# Altium integrated library Infineon_Power_MOSFET.IntLib: 1448 symbols (part 30 of 47)
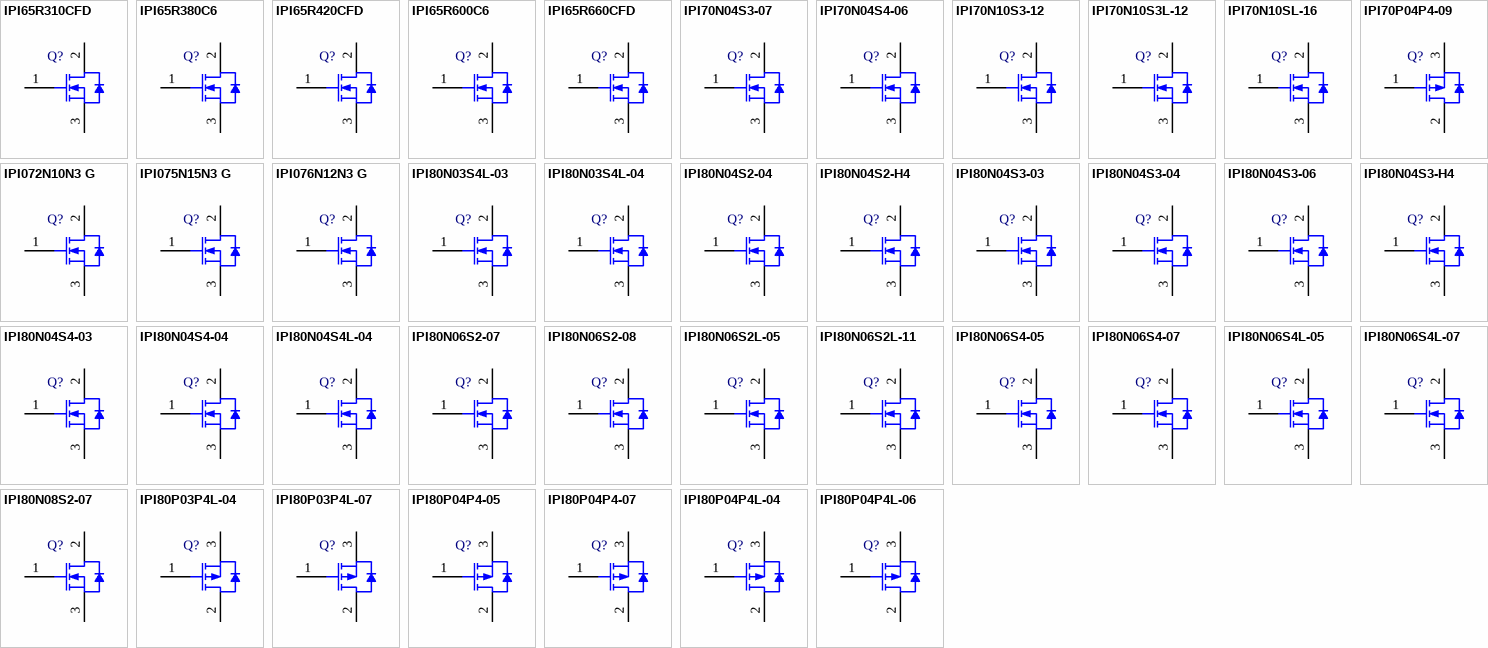
[diagram p66: symbols IPI65R310CFD to IPI80P04P4L-06]

## IPI70N10S3-12
designator Q?
OptiMOS-T Power-Transistor, 100 V VDS, 70 A ID, PG-TO262-3-1, Tube, Green; Manufacturer: Infineon; PartNumber: IPI70N10S3-12; Green: TRUE; ID (max): 70 A; IDpuls (max): 280 A; Ptot (max): 125 W; QG: 51 nC; RDS (on) (max) (@10V): 11.6 mOhm; RthJC (max): 1.2 K/W; VDS (max): 100 V; VGS(th) (max): 4 V; VGS(th) (min): 2 V; DatasheetVersion: Rev. 1.0; PackageReference: PG-TO262-3-1; PackageDescription: 3-Pin Plastic (Green) Transistor Single Outline Package, 10 x 9.25 mm Body, 2.54 mm Pitch; Supplier 1: Mouser; Supplier Part Number 1: 726-IPI70N10S312; Supplier 2: Digi-Key; Supplier Part Number 2: IPI70N10S3-12-ND; Halogen-free: TRUE; Packing: Tube; Technology: OptiMOS-T; Mounting Technology: Through Hole; ComponentLink1Description: Manufacturer URL; ComponentLink1URL: http://www.infineon.com/; ComponentLink2Description: Datasheet; ComponentLink2URL: http://www.infineon.com/dgdl/IPP_B_I70N10S3-12_neu.pdf?folderId=db3a3043156fd5730115c7d50620107c&fileId=db3a30431a5c32f2011a909803815967&location=en.Products.Automotive_ICs.Automotive_MOSFETs.Single__N-Channel_100V_MOSFETs.DATASHEET.IPP_B_I70N10S3-12_neu.pdf; ComponentLink3Description: Package Specification; ComponentLink3URL: http://www.infineon.com/cms/packages/Leaded_and_through-hole/P-PG-TO262/P-PG-TO262-3-1.html?__locale=en
footprint INF-PG-TO262-3-1 (FM, 3-Leads, Body 10x4.4mm, Pitch 2.54mm)
pins: 1 GATE, 2 DRAIN, 3 SOURCE

## IPI70N10S3L-12
designator Q?
OptiMOS-T Power-Transistor, 100 V VDS, 70 A ID, PG-TO262-3-1, Tube, Green; Manufacturer: Infineon; PartNumber: IPI70N10S3L-12; Green: TRUE; ID (max): 70 A; IDpuls (max): 280 A; Ptot (max): 125 W; QG: 60 nC; RDS (on) (max) (@10V): 12.1 mOhm; RDS (on) (max) (@4.5V): 15.8 mOhm; RthJC (max): 1.2 K/W; VDS (max): 100 V; VGS(th) (max): 2.4 V; VGS(th) (min): 1.2 V; DatasheetVersion: Rev. 1.2; PackageReference: PG-TO262-3-1; PackageDescription: 3-Pin Plastic (Green) Transistor Single Outline Package, 10 x 9.25 mm Body, 2.54 mm Pitch; Supplier 1: Mouser; Supplier Part Number 1: 726-IPI70N10S3L-12; Supplier 2: Digi-Key; Supplier Part Number 2: IPI70N10S3L-12-ND; Halogen-free: TRUE; Packing: Tube; Technology: OptiMOS-T; Mounting Technology: Through Hole; ComponentLink1Description: Manufacturer URL; ComponentLink1URL: http://www.infineon.com/; ComponentLink2Description: Datasheet; ComponentLink2URL: http://www.infineon.com/dgdl/IPP_B_I70N10S3L-12_DS_1_2.pdf?folderId=db3a3043156fd5730115c7d50620107c&fileId=db3a30431a5c32f2011a907bea255942&location=en.Products.Automotive_ICs.Automotive_MOSFETs.Single__N-Channel_100V_MOSFETs.DATASHEET.IPP_B_I70N10S3L-12_DS_1_2.pdf; ComponentLink3Description: Package Specification; ComponentLink3URL: http://www.infineon.com/cms/packages/Leaded_and_through-hole/P-PG-TO262/P-PG-TO262-3-1.html?__locale=en
footprint INF-PG-TO262-3-1 (FM, 3-Leads, Body 10x4.4mm, Pitch 2.54mm)
pins: 1 GATE, 2 DRAIN, 3 SOURCE

## IPI70N10SL-16
designator Q?
SIPMOS Power-Transistor, 100 V VDS, 70 A ID, PG-TO262-3-1, Tube, Green; Manufacturer: Infineon; PartNumber: IPI70N10SL-16; Green: TRUE; ID (max): 70 A; IDpuls (max): 280 A; Ptot (max): 250 W; QG: 160 nC; RDS (on) (max) (@10V): 16 mOhm; RDS (on) (max) (@4.5V): 25 mOhm; RthJC (max): 0.6 K/W; VDS (max): 100 V; VGS(th) (max): 2 V; VGS(th) (min): 1.2 V; PackageReference: PG-TO262-3-1; PackageDescription: 3-Pin Plastic (Green) Transistor Single Outline Package, 10 x 9.25 mm Body, 2.54 mm Pitch; Supplier 1: Mouser; Supplier Part Number 1: 726-IPI70N10SL-16; Supplier 2: Digi-Key; Supplier Part Number 2: IPI70N10SL-16-ND; Halogen-free: TRUE; Packing: Tube; Technology: SIPMOS; Mounting Technology: Through Hole; ComponentLink1Description: Manufacturer URL; ComponentLink1URL: http://www.infineon.com/; ComponentLink2Description: Datasheet; ComponentLink2URL: http://www.infineon.com/dgdl/IPP_B_I70N10SL-16.pdf?folderId=db3a304412b407950112b42a6a0a4339&fileId=db3a304412b407950112b42a72ce4342&location=en.Products.Automotive_ICs.Automotive_MOSFETs.Single__N-Channel_100V_MOSFETs.DATASHEET.IPP_B_I70N10SL-16.pdf; ComponentLink3Description: Package Specification; ComponentLink3URL: http://www.infineon.com/cms/packages/Leaded_and_through-hole/P-PG-TO262/P-PG-TO262-3-1.html?__locale=en
footprint INF-PG-TO262-3-1 (FM, 3-Leads, Body 10x4.4mm, Pitch 2.54mm)
pins: 1 GATE, 2 DRAIN, 3 SOURCE

## IPI70P04P4-09
designator Q?
OptiMOS-P2 Power-Transistor, -40 V VDS, -70 A ID, PG-TO262-3-1, Tube, Green; Manufacturer: Infineon; PartNumber: IPI70P04P4-09; Green: TRUE; ID (max): -70 A; IDpuls (max): -288 A; Ptot (max): 75 W; QG: 54 nC; RDS (on) (max) (@10V): 9.4 mOhm; RthJC (max): 2 K/W; VDS (max): -40 V; VGS(th) (max): -4 V; VGS(th) (min): -2 V; DatasheetVersion: Rev. 1.3; PackageReference: PG-TO262-3-1; PackageDescription: 3-Pin Plastic (Green) Transistor Single Outline Package, 10 x 9.25 mm Body, 2.54 mm Pitch; Supplier 1: Mouser; Supplier Part Number 1: 726-IPI70P04P4-09; Halogen-free: TRUE; Packing: Tube; Technology: OptiMOS-P2; Mounting Technology: Through Hole; ComponentLink1Description: Manufacturer URL; ComponentLink1URL: http://www.infineon.com/; ComponentLink2Description: Datasheet; ComponentLink2URL: http://www.infineon.com/dgdl/IPP_B_I70P04P4-09_DS_13.pdf?folderId=db3a304412b407950112b42b75b74520&fileId=db3a30432f69f146012f782d29312e0f&location=en.Products.Automotive_ICs.Automotive_MOSFETs.Single__P-Channel_40V_MOSFETs.DATASHEET.IPP_B_I70P04P4-09_DS_13.pdf; ComponentLink3Description: Package Specification; ComponentLink3URL: http://www.infineon.com/cms/packages/Leaded_and_through-hole/P-PG-TO262/P-PG-TO262-3-1.html?__locale=en
footprint INF-PG-TO262-3-1 (FM, 3-Leads, Body 10x4.4mm, Pitch 2.54mm)
pins: 1 GATE, 2 DRAIN, 3 SOURCE

## IPI072N10N3 G
designator Q?
N-Channel OptiMOS 3 Power-Transistor, 100 V VDS, 80 A ID, -55 to 175 degC, PG-TO262-3-1, Tube, Green; Manufacturer: Infineon; PartNumber: IPI072N10N3 G; Green: TRUE; ID (max): 80 A; IDpuls (max): 320 A; Polarity: N; Ptot (max): 150 W; QG: 51 nC; RDS (on) (max): 7.2 mOhm; Rth: 1 K/W; RthJA (max): 62 K/W; RthJC (max): 1 K/W; VDS (max): 100 V; VGS(th) (max): 3.5 V; VGS(th) (min): 2 V; DatasheetVersion: Rev. 2.1; PackageVersion: Rev. 03, 05/2006; PackageReference: PG-TO262-3-1; PackageDescription: 3-Pin Plastic (Green) Transistor Single Outline Package, 10.03 x 8.98 mm Body, 2.54 mm Pitch; Supplier 1: Mouser; Supplier Part Number 1: 726-IPI072N10N3G; Supplier 2: Digi-Key; Supplier Part Number 2: IPI072N10N3 G-ND; Halogen-free: TRUE; Packing: Tube; Mounting Technology: Through Hole; ComponentLink1Description: Manufacturer URL; ComponentLink1URL: http://www.infineon.com/; ComponentLink2Description: Datasheet; ComponentLink2URL: http://www.infineon.com/dgdl/IPP072N10N3+G_Rev2%5B1%5D.1.pdf?folderId=db3a304313b8b5a60113cee8763b02d7&fileId=db3a30432313ff5e012393bed2d20405; ComponentLink3Description: Package Specification; ComponentLink3URL: http://www.infineon.com/dgdl/DS_IPX65R420CFD_2_4.pdf?folderId=db3a3043156fd5730115c736bcc70ff2&fileId=db3a30432f91014f012f9c293f1a7399
footprint INF-PG-TO262-3-1_A (FM, 3-Leads, Body 10.03x4.436mm, Pitch 2.54mm)
pins: 1 GATE, 2 DRAIN, 3 SOURCE

## IPI075N15N3 G
designator Q?
N-Channel OptiMOS 3 Power-Transistor, 150 V VDS, 100 A ID, -55 to 175 degC, PG-TO262-3-1, Tube, Green; Manufacturer: Infineon; PartNumber: IPI075N15N3 G; Green: TRUE; ID (max): 100 A; IDpuls (max): 400 A; Polarity: N; Ptot (max): 300 W; QG: 70 nC; RDS (on) (max): 7.5 mOhm; Rth: 0.5 K/W; RthJA (max): 62 K/W; VDS (max): 150 V; VGS(th) (max): 4 V; VGS(th) (min): 2 V; DatasheetVersion: Rev. 2.06; PackageVersion: Rev. 03, 05/2006; PackageReference: PG-TO262-3-1; PackageDescription: 3-Pin Plastic (Green) Transistor Single Outline Package, 10.03 x 8.98 mm Body, 2.54 mm Pitch; Supplier 1: Mouser; Supplier Part Number 1: 726-IPI075N15N3G; Supplier 2: Newark; Supplier Part Number 2: 60R2717; Supplier 3: Farnell; Supplier Part Number 3: 1775602; Supplier 4: Digi-Key; Supplier Part Number 4: IPI075N15N3 G-ND; Halogen-free: TRUE; Packing: Tube; RthJC (max): 0.5 K/W; Mounting Technology: Through Hole; ComponentLink1Description: Manufacturer URL; ComponentLink1URL: http://www.infineon.com/; ComponentLink2Description: Datasheet; ComponentLink2URL: http://www.infineon.com/dgdl/IPP075N15N3+G_Rev26.pdf?folderId=db3a304313b8b5a60113cee8763b02d7&fileId=db3a30432313ff5e012399f743143bad; ComponentLink3Description: Package Specification; ComponentLink3URL: http://www.infineon.com/dgdl/DS_IPX65R420CFD_2_4.pdf?folderId=db3a3043156fd5730115c736bcc70ff2&fileId=db3a30432f91014f012f9c293f1a7399
footprint INF-PG-TO262-3-1_A (FM, 3-Leads, Body 10.03x4.436mm, Pitch 2.54mm)
pins: 1 GATE, 2 DRAIN, 3 SOURCE

## IPI076N12N3 G
designator Q?
N-Channel OptiMOS 3 Power-Transistor, 120 V VDS, 100 A ID, -55 to 175 degC, PG-TO262-3-1, Tube, Green; Manufacturer: Infineon; PartNumber: IPI076N12N3 G; Green: TRUE; ID (max): 100 A; IDpuls (max): 400 A; Polarity: N; Ptot (max): 188 W; QG: 76 nC; RDS (on) (max): 7.6 mOhm; Rth: 0.8 K/W; RthJA (max): 62 K/W; RthJC (max): 0.8 K/W; VDS (max): 120 V; VGS(th) (max): 4 V; VGS(th) (min): 2 V; DatasheetVersion: Rev. 2.3; PackageVersion: Rev. 03, 05/2006; PackageReference: PG-TO262-3-1; PackageDescription: 3-Pin Plastic (Green) Transistor Single Outline Package, 10.03 x 8.98 mm Body, 2.54 mm Pitch; Supplier 1: Mouser; Supplier Part Number 1: 726-IPI076N12N3G; Supplier 2: Digi-Key; Supplier Part Number 2: IPI076N12N3 G-ND; Halogen-free: TRUE; Packing: Tube; Mounting Technology: Through Hole; ComponentLink1Description: Manufacturer URL; ComponentLink1URL: http://www.infineon.com/; ComponentLink2Description: Datasheet; ComponentLink2URL: http://www.infineon.com/dgdl/IPP_I076N12N3+G_Rev2.3.pdf?folderId=db3a304313b8b5a60113cee8763b02d7&fileId=db3a30432239cccd0122a77a83ab7cd4; ComponentLink3Description: Package Specification; ComponentLink3URL: http://www.infineon.com/dgdl/DS_IPX65R420CFD_2_4.pdf?folderId=db3a3043156fd5730115c736bcc70ff2&fileId=db3a30432f91014f012f9c293f1a7399
footprint INF-PG-TO262-3-1_A (FM, 3-Leads, Body 10.03x4.436mm, Pitch 2.54mm)
pins: 1 GATE, 2 DRAIN, 3 SOURCE

## IPI80N03S4L-03
designator Q?
OptiMOS-T2 Power-Transistor, 30 V VDS, 80 A ID, PG-TO262-3-1, Tube, Green; Manufacturer: Infineon; PartNumber: IPI80N03S4L-03; Green: TRUE; ID (max): 80 A; IDpuls (max): 320 A; Ptot (max): 136 W; QG: 110 nC; RDS (on) (max) (@10V): 2.7 mOhm; RDS (on) (max) (@4.5V): 3.2 mOhm; RthJC (max): 1.1 K/W; VDS (max): 30 V; VGS(th) (max): 2.2 V; VGS(th) (min): 1 V; DatasheetVersion: Rev. 2.0; PackageReference: PG-TO262-3-1; PackageDescription: 3-Pin Plastic (Green) Transistor Single Outline Package, 10 x 9.25 mm Body, 2.54 mm Pitch; Supplier 1: Mouser; Supplier Part Number 1: 726-IPI80N03S4L-03; Supplier 2: Digi-Key; Supplier Part Number 2: IPI80N03S4L-03-ND; Halogen-free: TRUE; Packing: Tube; Technology: OptiMOS-T2; Mounting Technology: Through Hole; ComponentLink1Description: Manufacturer URL; ComponentLink1URL: http://www.infineon.com/; ComponentLink2Description: Datasheet; ComponentLink2URL: http://www.infineon.com/dgdl/IPB80N03S4L-02_IPP_I80N03S4L_03_DS_2_0.pdf?folderId=db3a304412b407950112b426f7da3b27&fileId=db3a304412b407950112b426fb253b37&location=en.Products.Automotive_ICs.Automotive_MOSFETs.Single__N-Channel_30V_MOSFETs.DATASHEET.IPB80N03S4L-02_IPP_I80N03S4L_03_DS_2_0.pdf; ComponentLink3Description: Package Specification; ComponentLink3URL: http://www.infineon.com/cms/packages/Leaded_and_through-hole/P-PG-TO262/P-PG-TO262-3-1.html?__locale=en
footprint INF-PG-TO262-3-1 (FM, 3-Leads, Body 10x4.4mm, Pitch 2.54mm)
pins: 1 GATE, 2 DRAIN, 3 SOURCE

## IPI80N03S4L-04
designator Q?
OptiMOS-T2 Power-Transistor, 30 V VDS, 80 A ID, PG-TO262-3-1, Tube, Green; Manufacturer: Infineon; PartNumber: IPI80N03S4L-04; Green: TRUE; ID (max): 80 A; IDpuls (max): 320 A; Ptot (max): 94 W; QG: 60 nC; RDS (on) (max) (@10V): 3.7 mOhm; RDS (on) (max) (@4.5V): 5 mOhm; RthJC (max): 1.6 K/W; VDS (max): 30 V; VGS(th) (max): 2.2 V; VGS(th) (min): 1 V; DatasheetVersion: Rev. 2.1; PackageReference: PG-TO262-3-1; PackageDescription: 3-Pin Plastic (Green) Transistor Single Outline Package, 10 x 9.25 mm Body, 2.54 mm Pitch; Supplier 1: Mouser; Supplier Part Number 1: 726-IPI80N03S4L-04; Supplier 2: Digi-Key; Supplier Part Number 2: IPI80N03S4L-04-ND; Halogen-free: TRUE; Packing: Tube; Technology: OptiMOS-T2; Mounting Technology: Through Hole; ComponentLink1Description: Manufacturer URL; ComponentLink1URL: http://www.infineon.com/; ComponentLink2Description: Datasheet; ComponentLink2URL: http://www.infineon.com/dgdl/IPB80N03S4L-03_IPP_I80N03S4L_04_DS_2_1.pdf?folderId=db3a304412b407950112b426f7da3b27&fileId=db3a304412b407950112b426f8443b28&location=en.Products.Automotive_ICs.Automotive_MOSFETs.Single__N-Channel_30V_MOSFETs.DATASHEET.IPB80N03S4L-03_IPP_I80N03S4L_04_DS_2_1.pdf; ComponentLink3Description: Package Specification; ComponentLink3URL: http://www.infineon.com/cms/packages/Leaded_and_through-hole/P-PG-TO262/P-PG-TO262-3-1.html?__locale=en
footprint INF-PG-TO262-3-1 (FM, 3-Leads, Body 10x4.4mm, Pitch 2.54mm)
pins: 1 GATE, 2 DRAIN, 3 SOURCE

## IPI80N04S2-04
designator Q?
OptiMOS Power-Transistor, 40 V VDS, 80 A ID, PG-TO262-3-1, Tube, Green; Manufacturer: Infineon; PartNumber: IPI80N04S2-04; Green: TRUE; ID (max): 80 A; IDpuls (max): 320 A; Ptot (max): 300 W; QG: 170 nC; RDS (on) (max) (@10V): 3.7 mOhm; RthJC (max): 0.5 K/W; VDS (max): 40 V; VGS(th) (max): 4 V; VGS(th) (min): 2.1 V; DatasheetVersion: Rev. 1.0; PackageReference: PG-TO262-3-1; PackageDescription: 3-Pin Plastic (Green) Transistor Single Outline Package, 10 x 9.25 mm Body, 2.54 mm Pitch; Supplier 1: Mouser; Supplier Part Number 1: 726-IPI80N04S204; Supplier 2: Digi-Key; Supplier Part Number 2: IPI80N04S2-04-ND; Halogen-free: TRUE; Packing: Tube; Technology: OptiMOS; Mounting Technology: Through Hole; ComponentLink1Description: Manufacturer URL; ComponentLink1URL: http://www.infineon.com/; ComponentLink2Description: Datasheet; ComponentLink2URL: http://www.infineon.com/dgdl/IPP_B_I80N04S2-04_green.pdf?folderId=db3a304412b407950112b408e8c90004&fileId=db3a304412b407950112b42b914f4556&location=en.Products.Automotive_ICs.Automotive_MOSFETs.Single__N-Channel_40V_MOSFETs.DATASHEET.IPP_B_I80N04S2-04_green.pdf; ComponentLink3Description: Package Specification; ComponentLink3URL: http://www.infineon.com/cms/packages/Leaded_and_through-hole/P-PG-TO262/P-PG-TO262-3-1.html?__locale=en
footprint INF-PG-TO262-3-1 (FM, 3-Leads, Body 10x4.4mm, Pitch 2.54mm)
pins: 1 GATE, 2 DRAIN, 3 SOURCE

## IPI80N04S2-H4
designator Q?
OptiMOS Power-Transistor, 40 V VDS, 80 A ID, PG-TO262-3-1, Tube, Green; Manufacturer: Infineon; PartNumber: IPI80N04S2-H4; Green: TRUE; ID (max): 80 A; IDpuls (max): 320 A; Ptot (max): 300 W; QG: 148 nC; RDS (on) (max) (@10V): 4 mOhm; RthJC (max): 0.5 K/W; VDS (max): 40 V; VGS(th) (max): 4 V; VGS(th) (min): 2.1 V; DatasheetVersion: Rev. 1.1; PackageReference: PG-TO262-3-1; PackageDescription: 3-Pin Plastic (Green) Transistor Single Outline Package, 10 x 9.25 mm Body, 2.54 mm Pitch; Supplier 1: Mouser; Supplier Part Number 1: 726-IPI80N04S2-H4; Supplier 2: Digi-Key; Supplier Part Number 2: IPI80N04S2-H4-ND; Halogen-free: TRUE; Packing: Tube; Technology: OptiMOS; Mounting Technology: Through Hole; ComponentLink1Description: Manufacturer URL; ComponentLink1URL: http://www.infineon.com/; ComponentLink2Description: Datasheet; ComponentLink2URL: http://www.infineon.com/dgdl/IPP_B_I80N04S2-H4_DS_1_1.pdf?folderId=db3a304412b407950112b408e8c90004&fileId=db3a304412b407950112b42b79094525&location=en.Products.Automotive_ICs.Automotive_MOSFETs.Single__N-Channel_40V_MOSFETs.DATASHEET.IPP_B_I80N04S2-H4_DS_1_1.pdf; ComponentLink3Description: Package Specification; ComponentLink3URL: http://www.infineon.com/cms/packages/Leaded_and_through-hole/P-PG-TO262/P-PG-TO262-3-1.html?__locale=en
footprint INF-PG-TO262-3-1 (FM, 3-Leads, Body 10x4.4mm, Pitch 2.54mm)
pins: 1 GATE, 2 DRAIN, 3 SOURCE

## IPI80N04S3-03
designator Q?
OptiMOS-T Power-Transistor, 40 V VDS, 80 A ID, PG-TO262-3-1, Tube, Green; Manufacturer: Infineon; PartNumber: IPI80N04S3-03; Green: TRUE; ID (max): 80 A; IDpuls (max): 320 A; Ptot (max): 188 W; QG: 83 nC; RDS (on) (max) (@10V): 3.5 mOhm; RthJC (max): 0.8 K/W; VDS (max): 40 V; VGS(th) (max): 4 V; VGS(th) (min): 2.1 V; DatasheetVersion: Rev. 1.0; PackageReference: PG-TO262-3-1; PackageDescription: 3-Pin Plastic (Green) Transistor Single Outline Package, 10 x 9.25 mm Body, 2.54 mm Pitch; Supplier 1: Mouser; Supplier Part Number 1: 726-IPI80N04S3-03; Supplier 2: Digi-Key; Supplier Part Number 2: IPI80N04S3-03-ND; Halogen-free: TRUE; Packing: Tube; Technology: OptiMOS-T; Mounting Technology: Through Hole; ComponentLink1Description: Manufacturer URL; ComponentLink1URL: http://www.infineon.com/; ComponentLink2Description: Datasheet; ComponentLink2URL: http://www.infineon.com/dgdl/IPP_B_I80N04S3-03_DS_1_0.pdf?folderId=db3a304412b407950112b42b75b74520&fileId=db3a304412b407950112b42ba23a4587&location=en.Products.Automotive_ICs.Automotive_MOSFETs.Single__N-Channel_40V_MOSFETs.DATASHEET.IPP_B_I80N04S3-03_DS_1_0.pdf; ComponentLink3Description: Package Specification; ComponentLink3URL: http://www.infineon.com/cms/packages/Leaded_and_through-hole/P-PG-TO262/P-PG-TO262-3-1.html?__locale=en
footprint INF-PG-TO262-3-1 (FM, 3-Leads, Body 10x4.4mm, Pitch 2.54mm)
pins: 1 GATE, 2 DRAIN, 3 SOURCE

## IPI80N04S3-04
designator Q?
OptiMOS-T Power-Transistor, 40 V VDS, 80 A ID, PG-TO262-3-1, Tube, Green; Manufacturer: Infineon; PartNumber: IPI80N04S3-04; Green: TRUE; ID (max): 80 A; IDpuls (max): 320 A; Ptot (max): 136 W; QG: 60 nC; RDS (on) (max) (@10V): 4.1 mOhm; RthJC (max): 1.1 K/W; VDS (max): 40 V; VGS(th) (max): 4 V; VGS(th) (min): 2.1 V; DatasheetVersion: Rev. 1.0; PackageReference: PG-TO262-3-1; PackageDescription: 3-Pin Plastic (Green) Transistor Single Outline Package, 10 x 9.25 mm Body, 2.54 mm Pitch; Supplier 1: Mouser; Supplier Part Number 1: 726-IPI80N04S304; Supplier 2: Digi-Key; Supplier Part Number 2: IPI80N04S3-04-ND; Halogen-free: TRUE; Packing: Tube; Technology: OptiMOS-T; Mounting Technology: Through Hole; ComponentLink1Description: Manufacturer URL; ComponentLink1URL: http://www.infineon.com/; ComponentLink2Description: Datasheet; ComponentLink2URL: http://www.infineon.com/dgdl/IPP_B_I80N04S3-04_DS_1_0.pdf?folderId=db3a304412b407950112b42b75b74520&fileId=db3a304412b407950112b42ba313458f&location=en.Products.Automotive_ICs.Automotive_MOSFETs.Single__N-Channel_40V_MOSFETs.DATASHEET.IPP_B_I80N04S3-04_DS_1_0.pdf; ComponentLink3Description: Package Specification; ComponentLink3URL: http://www.infineon.com/cms/packages/Leaded_and_through-hole/P-PG-TO262/P-PG-TO262-3-1.html?__locale=en
footprint INF-PG-TO262-3-1 (FM, 3-Leads, Body 10x4.4mm, Pitch 2.54mm)
pins: 1 GATE, 2 DRAIN, 3 SOURCE

## IPI80N04S3-06
designator Q?
OptiMOS-T Power-Transistor, 40 V VDS, 80 A ID, PG-TO262-3-1, Tube, Green; Manufacturer: Infineon; PartNumber: IPI80N04S3-06; Green: TRUE; ID (max): 80 A; IDpuls (max): 320 A; Ptot (max): 100 W; QG: 36 nC; RDS (on) (max) (@10V): 5.7 mOhm; RthJC (max): 1.5 K/W; VDS (max): 40 V; VGS(th) (max): 4 V; VGS(th) (min): 2.1 V; DatasheetVersion: Rev. 1.1; PackageReference: PG-TO262-3-1; PackageDescription: 3-Pin Plastic (Green) Transistor Single Outline Package, 10 x 9.25 mm Body, 2.54 mm Pitch; Supplier 1: Mouser; Supplier Part Number 1: 726-IPI80N04S3-06; Supplier 2: Digi-Key; Supplier Part Number 2: IPI80N04S3-06-ND; Halogen-free: TRUE; Packing: Tube; Technology: OptiMOS-T; Mounting Technology: Through Hole; ComponentLink1Description: Manufacturer URL; ComponentLink1URL: http://www.infineon.com/; ComponentLink2Description: Datasheet; ComponentLink2URL: http://www.infineon.com/dgdl/IPP_B_I80N04S3-06_DS_1_1.pdf?folderId=db3a304412b407950112b42b75b74520&fileId=db3a304412b407950112b42ba2ab458b&location=en.Products.Automotive_ICs.Automotive_MOSFETs.Single__N-Channel_40V_MOSFETs.DATASHEET.IPP_B_I80N04S3-06_DS_1_1.pdf; ComponentLink3Description: Package Specification; ComponentLink3URL: http://www.infineon.com/cms/packages/Leaded_and_through-hole/P-PG-TO262/P-PG-TO262-3-1.html?__locale=en
footprint INF-PG-TO262-3-1 (FM, 3-Leads, Body 10x4.4mm, Pitch 2.54mm)
pins: 1 GATE, 2 DRAIN, 3 SOURCE

## IPI80N04S3-H4
designator Q?
OptiMOS-T Power-Transistor, 40 V VDS, 80 A ID, PG-TO262-3-1, Tube, Green; Manufacturer: Infineon; PartNumber: IPI80N04S3-H4; Green: TRUE; ID (max): 80 A; IDpuls (max): 320 A; Ptot (max): 115 W; QG: 46 nC; RDS (on) (max) (@10V): 4.8 mOhm; RthJC (max): 1.3 K/W; VDS (max): 40 V; VGS(th) (max): 4 V; VGS(th) (min): 2.1 V; DatasheetVersion: Rev. 1.0; PackageReference: PG-TO262-3-1; PackageDescription: 3-Pin Plastic (Green) Transistor Single Outline Package, 10 x 9.25 mm Body, 2.54 mm Pitch; Supplier 1: Mouser; Supplier Part Number 1: 726-IPI80N04S3-H4; Supplier 2: Digi-Key; Supplier Part Number 2: IPI80N04S3-H4-ND; Halogen-free: TRUE; Packing: Tube; Technology: OptiMOS-T; Mounting Technology: Through Hole; ComponentLink1Description: Manufacturer URL; ComponentLink1URL: http://www.infineon.com/; ComponentLink2Description: Datasheet; ComponentLink2URL: http://www.infineon.com/dgdl/IPP80N04S3-H4.pdf?folderId=db3a304412b407950112b42b75b74520&fileId=db3a30431b3e89eb011bb76aa1750717&location=en.Products.Automotive_ICs.Automotive_MOSFETs.Single__N-Channel_40V_MOSFETs.DATASHEET.IPP80N04S3-H4.pdf; ComponentLink3Description: Package Specification; ComponentLink3URL: http://www.infineon.com/cms/packages/Leaded_and_through-hole/P-PG-TO262/P-PG-TO262-3-1.html?__locale=en
footprint INF-PG-TO262-3-1 (FM, 3-Leads, Body 10x4.4mm, Pitch 2.54mm)
pins: 1 GATE, 2 DRAIN, 3 SOURCE

## IPI80N04S4-03
designator Q?
OptiMOS-T2 Power-Transistor, 40 V VDS, 80 A ID, PG-TO262-3-1, Tube, Green; Manufacturer: Infineon; PartNumber: IPI80N04S4-03; Green: TRUE; ID (max): 80 A; IDpuls (max): 320 A; Ptot (max): 94 W; QG: 51 nC; RDS (on) (max) (@10V): 3.7 mOhm; RthJC (max): 1.6 K/W; VDS (max): 40 V; VGS(th) (max): 4 V; VGS(th) (min): 2 V; DatasheetVersion: Rev. 1.0; PackageReference: PG-TO262-3-1; PackageDescription: 3-Pin Plastic (Green) Transistor Single Outline Package, 10 x 9.25 mm Body, 2.54 mm Pitch; Supplier 1: Mouser; Supplier Part Number 1: 726-IPI80N04S4-03; Supplier 2: Digi-Key; Supplier Part Number 2: IPI80N04S4-03-ND; Halogen-free: TRUE; Packing: Tube; Technology: OptiMOS-T2; Mounting Technology: Through Hole; ComponentLink1Description: Manufacturer URL; ComponentLink1URL: http://www.infineon.com/; ComponentLink2Description: Datasheet; ComponentLink2URL: http://www.infineon.com/dgdl/IPP_B_I80N04S4-03_DS_1_0.pdf?folderId=db3a304412b407950112b42b75b74520&fileId=db3a304328c6bd5c01291c53fc8b5dab&location=en.Products.Automotive_ICs.Automotive_MOSFETs.Single__N-Channel_40V_MOSFETs.DATASHEET.IPP_B_I80N04S4-03_DS_1_0.pdf; ComponentLink3Description: Package Specification; ComponentLink3URL: http://www.infineon.com/cms/packages/Leaded_and_through-hole/P-PG-TO262/P-PG-TO262-3-1.html?__locale=en
footprint INF-PG-TO262-3-1 (FM, 3-Leads, Body 10x4.4mm, Pitch 2.54mm)
pins: 1 GATE, 2 DRAIN, 3 SOURCE

## IPI80N04S4-04
designator Q?
OptiMOS-T2 Power-Transistor, 40 V VDS, 80 A ID, PG-TO262-3-1, Tube, Green; Manufacturer: Infineon; PartNumber: IPI80N04S4-04; Green: TRUE; ID (max): 80 A; IDpuls (max): 320 A; Ptot (max): 71 W; QG: 33 nC; RDS (on) (max) (@10V): 4.6 mOhm; RthJC (max): 2.1 K/W; VDS (max): 40 V; VGS(th) (max): 4 V; VGS(th) (min): 2 V; DatasheetVersion: Rev. 1.0; PackageReference: PG-TO262-3-1; PackageDescription: 3-Pin Plastic (Green) Transistor Single Outline Package, 10 x 9.25 mm Body, 2.54 mm Pitch; Supplier 1: Mouser; Supplier Part Number 1: 726-IPI80N04S4-04; Supplier 2: Digi-Key; Supplier Part Number 2: IPI80N04S4-04-ND; Halogen-free: TRUE; Packing: Tube; Technology: OptiMOS-T2; Mounting Technology: Through Hole; ComponentLink1Description: Manufacturer URL; ComponentLink1URL: http://www.infineon.com/; ComponentLink2Description: Datasheet; ComponentLink2URL: http://www.infineon.com/dgdl/IPP_B_I80N04S4-04_DS_1_0.pdf?folderId=db3a304412b407950112b42b75b74520&fileId=db3a304328c6bd5c01291c71d4085dfa&location=en.Products.Automotive_ICs.Automotive_MOSFETs.Single__N-Channel_40V_MOSFETs.DATASHEET.IPP_B_I80N04S4-04_DS_1_0.pdf; ComponentLink3Description: Package Specification; ComponentLink3URL: http://www.infineon.com/cms/packages/Leaded_and_through-hole/P-PG-TO262/P-PG-TO262-3-1.html?__locale=en
footprint INF-PG-TO262-3-1 (FM, 3-Leads, Body 10x4.4mm, Pitch 2.54mm)
pins: 1 GATE, 2 DRAIN, 3 SOURCE

## IPI80N04S4L-04
designator Q?
OptiMOS-T2 Power-Transistor, 40 V VDS, 80 A ID, PG-TO262-3-1, Tube, Green; Manufacturer: Infineon; PartNumber: IPI80N04S4L-04; Green: TRUE; ID (max): 80 A; IDpuls (max): 320 A; Ptot (max): 71 W; QG: 46 nC; RDS (on) (max) (@10V): 4.3 mOhm; RDS (on) (max) (@4.5V): 6 mOhm; RthJC (max): 2.1 K/W; VDS (max): 40 V; VGS(th) (max): 2.2 V; VGS(th) (min): 1.2 V; DatasheetVersion: Rev. 1.0; PackageReference: PG-TO262-3-1; PackageDescription: 3-Pin Plastic (Green) Transistor Single Outline Package, 10 x 9.25 mm Body, 2.54 mm Pitch; Supplier 1: Mouser; Supplier Part Number 1: 726-IPI80N04S4L-04; Supplier 2: Digi-Key; Supplier Part Number 2: IPI80N04S4L-04-ND; Halogen-free: TRUE; Packing: Tube; Technology: OptiMOS-T2; Mounting Technology: Through Hole; ComponentLink1Description: Manufacturer URL; ComponentLink1URL: http://www.infineon.com/; ComponentLink2Description: Datasheet; ComponentLink2URL: http://www.infineon.com/dgdl/IPP_B_I80N04S4L-04_DS_1_0.pdf?folderId=db3a304412b407950112b42b75b74520&fileId=db3a304328c6bd5c01291c780c375e1e&location=en.Products.Automotive_ICs.Automotive_MOSFETs.Single__N-Channel_40V_MOSFETs.DATASHEET.IPP_B_I80N04S4L-04_DS_1_0.pdf; ComponentLink3Description: Package Specification; ComponentLink3URL: http://www.infineon.com/cms/packages/Leaded_and_through-hole/P-PG-TO262/P-PG-TO262-3-1.html?__locale=en
footprint INF-PG-TO262-3-1 (FM, 3-Leads, Body 10x4.4mm, Pitch 2.54mm)
pins: 1 GATE, 2 DRAIN, 3 SOURCE

## IPI80N06S2-07
designator Q?
OptiMOS Power-Transistor, 55 V VDS, 80 A ID, PG-TO262-3-1, Tube, Green; Manufacturer: Infineon; PartNumber: IPI80N06S2-07; Green: TRUE; ID (max): 80 A; IDpuls (max): 320 A; Ptot (max): 250 W; QG: 86 nC; RDS (on) (max) (@10V): 6.6 mOhm; RthJC (max): 0.6 K/W; VDS (max): 55 V; VGS(th) (max): 4 V; VGS(th) (min): 2.1 V; DatasheetVersion: Rev. 1.0; PackageReference: PG-TO262-3-1; PackageDescription: 3-Pin Plastic (Green) Transistor Single Outline Package, 10 x 9.25 mm Body, 2.54 mm Pitch; Supplier 1: Mouser; Supplier Part Number 1: 726-IPI80N06S207; Supplier 2: Digi-Key; Supplier Part Number 2: IPI80N06S2-07-ND; Halogen-free: TRUE; Packing: Tube; Technology: OptiMOS; Mounting Technology: Through Hole; ComponentLink1Description: Manufacturer URL; ComponentLink1URL: http://www.infineon.com/; ComponentLink2Description: Datasheet; ComponentLink2URL: http://www.infineon.com/dgdl/IPP_B_I80N06S2-07_green.pdf?folderId=db3a304412b407950112b426db703ad9&fileId=db3a304412b407950112b43339a25ab4&location=en.Products.Automotive_ICs.Automotive_MOSFETs.Single__N-Channel_55V_MOSFETs.DATASHEET.IPP_B_I80N06S2-07_green.pdf; ComponentLink3Description: Package Specification; ComponentLink3URL: http://www.infineon.com/cms/packages/Leaded_and_through-hole/P-PG-TO262/P-PG-TO262-3-1.html?__locale=en
footprint INF-PG-TO262-3-1 (FM, 3-Leads, Body 10x4.4mm, Pitch 2.54mm)
pins: 1 GATE, 2 DRAIN, 3 SOURCE

## IPI80N06S2-08
designator Q?
OptiMOS Power-Transistor, 55 V VDS, 80 A ID, PG-TO262-3-1, Tube, Green; Manufacturer: Infineon; PartNumber: IPI80N06S2-08; Green: TRUE; ID (max): 80 A; IDpuls (max): 320 A; Ptot (max): 215 W; QG: 72 nC; RDS (on) (max) (@10V): 8 mOhm; RthJC (max): 0.7 K/W; VDS (max): 55 V; VGS(th) (max): 4 V; VGS(th) (min): 2.1 V; DatasheetVersion: Rev. 1.0; PackageReference: PG-TO262-3-1; PackageDescription: 3-Pin Plastic (Green) Transistor Single Outline Package, 10 x 9.25 mm Body, 2.54 mm Pitch; Supplier 1: Mouser; Supplier Part Number 1: 726-IPI80N06S208; Supplier 2: Digi-Key; Supplier Part Number 2: IPI80N06S2-08-ND; Halogen-free: TRUE; Packing: Tube; Technology: OptiMOS; Mounting Technology: Through Hole; ComponentLink1Description: Manufacturer URL; ComponentLink1URL: http://www.infineon.com/; ComponentLink2Description: Datasheet; ComponentLink2URL: http://www.infineon.com/dgdl/IPP_B_I80N06S2-08_green.pdf?folderId=db3a304412b407950112b426db703ad9&fileId=db3a304412b407950112b43227675735&location=en.Products.Automotive_ICs.Automotive_MOSFETs.Single__N-Channel_55V_MOSFETs.DATASHEET.IPP_B_I80N06S2-08_green.pdf; ComponentLink3Description: Package Specification; ComponentLink3URL: http://www.infineon.com/cms/packages/Leaded_and_through-hole/P-PG-TO262/P-PG-TO262-3-1.html?__locale=en
footprint INF-PG-TO262-3-1 (FM, 3-Leads, Body 10x4.4mm, Pitch 2.54mm)
pins: 1 GATE, 2 DRAIN, 3 SOURCE

## IPI80N06S2L-05
designator Q?
OptiMOS Power-Transistor, 55 V VDS, 80 A ID, PG-TO262-3-1, Tube, Green; Manufacturer: Infineon; PartNumber: IPI80N06S2L-05; Green: TRUE; ID (max): 80 A; IDpuls (max): 320 A; Ptot (max): 300 W; QG: 170 nC; RDS (on) (max) (@10V): 4.8 mOhm; RDS (on) (max) (@4.5V): 6 mOhm; RthJC (max): 0.5 K/W; VDS (max): 55 V; VGS(th) (max): 2 V; VGS(th) (min): 1.2 V; DatasheetVersion: Rev. 1.0; PackageReference: PG-TO262-3-1; PackageDescription: 3-Pin Plastic (Green) Transistor Single Outline Package, 10 x 9.25 mm Body, 2.54 mm Pitch; Supplier 1: Mouser; Supplier Part Number 1: 726-IPI80N06S2L05; Supplier 2: Digi-Key; Supplier Part Number 2: IPI80N06S2L-05-ND; Halogen-free: TRUE; Packing: Tube; Technology: OptiMOS; Mounting Technology: Through Hole; ComponentLink1Description: Manufacturer URL; ComponentLink1URL: http://www.infineon.com/; ComponentLink2Description: Datasheet; ComponentLink2URL: http://www.infineon.com/dgdl/IPP_B_I80N06S2L-05_green.pdf?folderId=db3a304412b407950112b426db703ad9&fileId=db3a304412b407950112b43226fc5731&location=en.Products.Automotive_ICs.Automotive_MOSFETs.Single__N-Channel_55V_MOSFETs.DATASHEET.IPP_B_I80N06S2L-05_green.pdf; ComponentLink3Description: Package Specification; ComponentLink3URL: http://www.infineon.com/cms/packages/Leaded_and_through-hole/P-PG-TO262/P-PG-TO262-3-1.html?__locale=en
footprint INF-PG-TO262-3-1 (FM, 3-Leads, Body 10x4.4mm, Pitch 2.54mm)
pins: 1 GATE, 2 DRAIN, 3 SOURCE

## IPI80N06S2L-11
designator Q?
OptiMOS Power-Transistor, 55 V VDS, 80 A ID, PG-TO262-3-1, Tube, Green; Manufacturer: Infineon; PartNumber: IPI80N06S2L-11; Green: TRUE; ID (max): 80 A; IDpuls (max): 320 A; Ptot (max): 158 W; QG: 62 nC; RDS (on) (max) (@10V): 11 mOhm; RDS (on) (max) (@4.5V): 14.7 mOhm; RthJC (max): 0.95 K/W; VDS (max): 55 V; VGS(th) (max): 2 V; VGS(th) (min): 1.2 V; DatasheetVersion: Rev. 1.1; PackageReference: PG-TO262-3-1; PackageDescription: 3-Pin Plastic (Green) Transistor Single Outline Package, 10 x 9.25 mm Body, 2.54 mm Pitch; Supplier 1: Mouser; Supplier Part Number 1: 726-IPI80N06S2L11; Supplier 2: Digi-Key; Supplier Part Number 2: IPI80N06S2L-11-ND; Halogen-free: TRUE; Packing: Tube; Technology: OptiMOS; Mounting Technology: Through Hole; ComponentLink1Description: Manufacturer URL; ComponentLink1URL: http://www.infineon.com/; ComponentLink2Description: Datasheet; ComponentLink2URL: http://www.infineon.com/dgdl/IPP_B_I80N06S2L-11_DS_1_1.pdf?folderId=db3a304412b407950112b426db703ad9&fileId=db3a304412b407950112b4333e375ac6&location=en.Products.Automotive_ICs.Automotive_MOSFETs.Single__N-Channel_55V_MOSFETs.DATASHEET.IPP_B_I80N06S2L-11_DS_1_1.pdf; ComponentLink3Description: Package Specification; ComponentLink3URL: http://www.infineon.com/cms/packages/Leaded_and_through-hole/P-PG-TO262/P-PG-TO262-3-1.html?__locale=en
footprint INF-PG-TO262-3-1 (FM, 3-Leads, Body 10x4.4mm, Pitch 2.54mm)
pins: 1 GATE, 2 DRAIN, 3 SOURCE

## IPI80N06S4-05
designator Q?
OptiMOS-T2 Power-Transistor, 60 V VDS, 80 A ID, PG-TO262-3-1, Tube, Green; Manufacturer: Infineon; PartNumber: IPI80N06S4-05; Green: TRUE; ID (max): 80 A; IDpuls (max): 320 A; Ptot (max): 107 W; QG: 62 nC; RDS (on) (max) (@10V): 5.7 mOhm; RthJC (max): 1.4 K/W; VDS (max): 60 V; VGS(th) (max): 4 V; VGS(th) (min): 2 V; DatasheetVersion: Rev. 1.0; PackageReference: PG-TO262-3-1; PackageDescription: 3-Pin Plastic (Green) Transistor Single Outline Package, 10 x 9.25 mm Body, 2.54 mm Pitch; Supplier 1: Mouser; Supplier Part Number 1: 726-IPI80N06S4-05; Supplier 2: Digi-Key; Supplier Part Number 2: IPI80N06S4-05-ND; Halogen-free: TRUE; Packing: Tube; Technology: OptiMOS-T2; Mounting Technology: Through Hole; ComponentLink1Description: Manufacturer URL; ComponentLink1URL: http://www.infineon.com/; ComponentLink2Description: Datasheet; ComponentLink2URL: http://www.infineon.com/dgdl/IPP_B_I80N06S4-05_DS_10.pdf?folderId=db3a30431a5c32f2011a8084a04a6500&fileId=db3a30431ff98815012038d4d5340cec&location=en.Products.Automotive_ICs.Automotive_MOSFETs.Single__N-Channel_60V_MOSFETs.DATASHEET.IPP_B_I80N06S4-05_DS_10.pdf; ComponentLink3Description: Package Specification; ComponentLink3URL: http://www.infineon.com/cms/packages/Leaded_and_through-hole/P-PG-TO262/P-PG-TO262-3-1.html?__locale=en
footprint INF-PG-TO262-3-1 (FM, 3-Leads, Body 10x4.4mm, Pitch 2.54mm)
pins: 1 GATE, 2 DRAIN, 3 SOURCE

## IPI80N06S4-07
designator Q?
OptiMOS-T2 Power-Transistor, 60 V VDS, 80 A ID, PG-TO262-3-1, Tube, Green; Manufacturer: Infineon; PartNumber: IPI80N06S4-07; Green: TRUE; ID (max): 80 A; IDpuls (max): 320 A; Ptot (max): 79 W; QG: 43 nC; RDS (on) (max) (@10V): 7.4 mOhm; RthJC (max): 1.9 K/W; VDS (max): 60 V; VGS(th) (max): 4 V; VGS(th) (min): 2 V; DatasheetVersion: Rev. 1.0; PackageReference: PG-TO262-3-1; PackageDescription: 3-Pin Plastic (Green) Transistor Single Outline Package, 10 x 9.25 mm Body, 2.54 mm Pitch; Supplier 1: Mouser; Supplier Part Number 1: 726-IPI80N06S4-07; Supplier 2: Digi-Key; Supplier Part Number 2: IPI80N06S4-07-ND; Halogen-free: TRUE; Packing: Tube; Technology: OptiMOS-T2; Mounting Technology: Through Hole; ComponentLink1Description: Manufacturer URL; ComponentLink1URL: http://www.infineon.com/; ComponentLink2Description: Datasheet; ComponentLink2URL: http://www.infineon.com/dgdl/IPP_B_I80N06S4-07_DS_10.pdf?folderId=db3a30431a5c32f2011a8084a04a6500&fileId=db3a30431ff98815012038dc68c00cf5&location=en.Products.Automotive_ICs.Automotive_MOSFETs.Single__N-Channel_60V_MOSFETs.DATASHEET.IPP_B_I80N06S4-07_DS_10.pdf; ComponentLink3Description: Package Specification; ComponentLink3URL: http://www.infineon.com/cms/packages/Leaded_and_through-hole/P-PG-TO262/P-PG-TO262-3-1.html?__locale=en
footprint INF-PG-TO262-3-1 (FM, 3-Leads, Body 10x4.4mm, Pitch 2.54mm)
pins: 1 GATE, 2 DRAIN, 3 SOURCE

## IPI80N06S4L-05
designator Q?
OptiMOS-T2 Power-Transistor, 60 V VDS, 80 A ID, PG-TO262-3-1, Tube, Green; Manufacturer: Infineon; PartNumber: IPI80N06S4L-05; Green: TRUE; ID (max): 80 A; IDpuls (max): 320 A; Ptot (max): 107 W; QG: 83 nC; RDS (on) (max) (@10V): 5.1 mOhm; RDS (on) (max) (@4.5V): 8.5 mOhm; RthJC (max): 1.4 K/W; VDS (max): 60 V; VGS(th) (max): 2.2 V; VGS(th) (min): 1.2 V; DatasheetVersion: Rev. 1.0; PackageReference: PG-TO262-3-1; PackageDescription: 3-Pin Plastic (Green) Transistor Single Outline Package, 10 x 9.25 mm Body, 2.54 mm Pitch; Supplier 1: Mouser; Supplier Part Number 1: 726-IPI80N06S4L-05; Supplier 2: Digi-Key; Supplier Part Number 2: IPI80N06S4L-05-ND; Halogen-free: TRUE; Packing: Tube; Technology: OptiMOS-T2; Mounting Technology: Through Hole; ComponentLink1Description: Manufacturer URL; ComponentLink1URL: http://www.infineon.com/; ComponentLink2Description: Datasheet; ComponentLink2URL: http://www.infineon.com/dgdl/IPP_B_I80N06S4L-05_DS_10.pdf?folderId=db3a30431a5c32f2011a8084a04a6500&fileId=db3a30431ff98815012038e65fed0d07&location=en.Products.Automotive_ICs.Automotive_MOSFETs.Single__N-Channel_60V_MOSFETs.DATASHEET.IPP_B_I80N06S4L-05_DS_10.pdf; ComponentLink3Description: Package Specification; ComponentLink3URL: http://www.infineon.com/cms/packages/Leaded_and_through-hole/P-PG-TO262/P-PG-TO262-3-1.html?__locale=en
footprint INF-PG-TO262-3-1 (FM, 3-Leads, Body 10x4.4mm, Pitch 2.54mm)
pins: 1 GATE, 2 DRAIN, 3 SOURCE

## IPI80N06S4L-07
designator Q?
OptiMOS-T2 Power-Transistor, 60 V VDS, 80 A ID, PG-TO262-3-1, Tube, Green; Manufacturer: Infineon; PartNumber: IPI80N06S4L-07; Green: TRUE; ID (max): 80 A; IDpuls (max): 320 A; Ptot (max): 79 W; QG: 58 nC; RDS (on) (max) (@10V): 6.4 mOhm; RDS (on) (max) (@4.5V): 11.3 mOhm; RthJC (max): 1.9 K/W; VDS (max): 60 V; VGS(th) (max): 2 V; VGS(th) (min): 1.2 V; DatasheetVersion: Rev. 1.0; PackageReference: PG-TO262-3-1; PackageDescription: 3-Pin Plastic (Green) Transistor Single Outline Package, 10 x 9.25 mm Body, 2.54 mm Pitch; Supplier 1: Mouser; Supplier Part Number 1: 726-IPI80N06S4L-07; Supplier 2: Digi-Key; Supplier Part Number 2: IPI80N06S4L-07-ND; Halogen-free: TRUE; Packing: Tube; Technology: OptiMOS-T2; Mounting Technology: Through Hole; ComponentLink1Description: Manufacturer URL; ComponentLink1URL: http://www.infineon.com/; ComponentLink2Description: Datasheet; ComponentLink2URL: http://www.infineon.com/dgdl/IPP_B_I80N06S4L-07_DS_10.pdf?folderId=db3a30431a5c32f2011a8084a04a6500&fileId=db3a30431ff98815012038ea8e6c0d10&location=en.Products.Automotive_ICs.Automotive_MOSFETs.Single__N-Channel_60V_MOSFETs.DATASHEET.IPP_B_I80N06S4L-07_DS_10.pdf; ComponentLink3Description: Package Specification; ComponentLink3URL: http://www.infineon.com/cms/packages/Leaded_and_through-hole/P-PG-TO262/P-PG-TO262-3-1.html?__locale=en
footprint INF-PG-TO262-3-1 (FM, 3-Leads, Body 10x4.4mm, Pitch 2.54mm)
pins: 1 GATE, 2 DRAIN, 3 SOURCE

## IPI80N08S2-07
designator Q?
OptiMOS Power-Transistor, 75 V VDS, 80 A ID, PG-TO262-3-1, Tube, Green; Manufacturer: Infineon; PartNumber: IPI80N08S2-07; Green: TRUE; ID (max): 80 A; IDpuls (max): 320 A; Ptot (max): 300 W; QG: 144 nC; RDS (on) (max) (@10V): 7.4 mOhm; RthJC (max): 0.5 K/W; VDS (max): 75 V; VGS(th) (max): 4 V; VGS(th) (min): 2.1 V; DatasheetVersion: Rev. 1.0; PackageReference: PG-TO262-3-1; PackageDescription: 3-Pin Plastic (Green) Transistor Single Outline Package, 10 x 9.25 mm Body, 2.54 mm Pitch; Supplier 1: Mouser; Supplier Part Number 1: 726-IPI80N08S207; Supplier 2: Digi-Key; Supplier Part Number 2: IPI80N08S2-07-ND; Halogen-free: TRUE; Packing: Tube; Technology: OptiMOS; Mounting Technology: Through Hole; ComponentLink1Description: Manufacturer URL; ComponentLink1URL: http://www.infineon.com/; ComponentLink2Description: Datasheet; ComponentLink2URL: http://www.infineon.com/dgdl/IPP_B_I80N08S2-07_green.pdf?folderId=db3a304412b407950112b408e8c90004&fileId=db3a304412b407950112b426df983adf&location=en.Products.Automotive_ICs.Automotive_MOSFETs.Single__N-Channel_75V_MOSFETs.DATASHEET.IPP_B_I80N08S2-07_green.pdf; ComponentLink3Description: Package Specification; ComponentLink3URL: http://www.infineon.com/cms/packages/Leaded_and_through-hole/P-PG-TO262/P-PG-TO262-3-1.html?__locale=en
footprint INF-PG-TO262-3-1 (FM, 3-Leads, Body 10x4.4mm, Pitch 2.54mm)
pins: 1 GATE, 2 DRAIN, 3 SOURCE

## IPI80P03P4L-04
designator Q?
OptiMOS-P2 Power-Transistor, -30 V VDS, -80 A ID, PG-TO262-3-1, Tube, Green; Manufacturer: Infineon; PartNumber: IPI80P03P4L-04; Green: TRUE; ID (max): -80 A; IDpuls (max): -320 A; Ptot (max): 137 W; QG: 125 nC; RDS (on) (max) (@10V): 4.4 mOhm; RDS (on) (max) (@4.5V): 7 mOhm; RthJC (max): 1.1 K/W; VDS (max): -30 V; VGS(th) (max): -2 V; VGS(th) (min): -1 V; DatasheetVersion: Rev. 1.0; PackageReference: PG-TO262-3-1; PackageDescription: 3-Pin Plastic (Green) Transistor Single Outline Package, 10 x 9.25 mm Body, 2.54 mm Pitch; Supplier 1: Mouser; Supplier Part Number 1: 726-IPI80P03P4L-04; Supplier 2: Digi-Key; Supplier Part Number 2: IPI80P03P4L-04-ND; Halogen-free: TRUE; Packing: Tube; Technology: OptiMOS-P2; Mounting Technology: Through Hole; ComponentLink1Description: Manufacturer URL; ComponentLink1URL: http://www.infineon.com/; ComponentLink2Description: Datasheet; ComponentLink2URL: http://www.infineon.com/dgdl/IPP_B_I80P03P4L-04_DS_10.pdf?folderId=db3a304314dca3890114ef902baa05f9&fileId=db3a30431ddc9372011e07e95eb827d7&location=en.Products.Automotive_ICs.Automotive_MOSFETs.Single__P-Channel_30V_MOSFETs.DATASHEET.IPP_B_I80P03P4L-04_DS_10.pdf; ComponentLink3Description: Package Specification; ComponentLink3URL: http://www.infineon.com/cms/packages/Leaded_and_through-hole/P-PG-TO262/P-PG-TO262-3-1.html?__locale=en
footprint INF-PG-TO262-3-1 (FM, 3-Leads, Body 10x4.4mm, Pitch 2.54mm)
pins: 1 GATE, 2 DRAIN, 3 SOURCE

## IPI80P03P4L-07
designator Q?
OptiMOS-P2 Power-Transistor, -30 V VDS, -80 A ID, PG-TO262-3-1, Tube, Green; Manufacturer: Infineon; PartNumber: IPI80P03P4L-07; Green: TRUE; ID (max): -80 A; IDpuls (max): -320 A; Ptot (max): 88 W; QG: 63 nC; RDS (on) (max) (@10V): 7.2 mOhm; RDS (on) (max) (@4.5V): 12.3 mOhm; RthJC (max): 1.7 K/W; VDS (max): -30 V; VGS(th) (max): -2 V; VGS(th) (min): -1 V; DatasheetVersion: Rev. 1.0; PackageReference: PG-TO262-3-1; PackageDescription: 3-Pin Plastic (Green) Transistor Single Outline Package, 10 x 9.25 mm Body, 2.54 mm Pitch; Supplier 1: Mouser; Supplier Part Number 1: 726-IPI80P03P4L-07; Supplier 2: Digi-Key; Supplier Part Number 2: IPI80P03P4L-07-ND; Halogen-free: TRUE; Packing: Tube; Technology: OptiMOS-P2; Mounting Technology: Through Hole; ComponentLink1Description: Manufacturer URL; ComponentLink1URL: http://www.infineon.com/; ComponentLink2Description: Datasheet; ComponentLink2URL: http://www.infineon.com/dgdl/IPP_B_I80P03P4L-07_DS_10.pdf?folderId=db3a304314dca3890114ef902baa05f9&fileId=db3a30431ddc9372011e07ed65b827fd&location=en.Products.Automotive_ICs.Automotive_MOSFETs.Single__P-Channel_30V_MOSFETs.DATASHEET.IPP_B_I80P03P4L-07_DS_10.pdf; ComponentLink3Description: Package Specification; ComponentLink3URL: http://www.infineon.com/cms/packages/Leaded_and_through-hole/P-PG-TO262/P-PG-TO262-3-1.html?__locale=en
footprint INF-PG-TO262-3-1 (FM, 3-Leads, Body 10x4.4mm, Pitch 2.54mm)
pins: 1 GATE, 2 DRAIN, 3 SOURCE

## IPI80P04P4-05
designator Q?
OptiMOS-P2 Power-Transistor, -40 V VDS, -80 A ID, PG-TO262-3-1, Tube, Green; Manufacturer: Infineon; PartNumber: IPI80P04P4-05; Green: TRUE; ID (max): -80 A; IDpuls (max): -320 A; Ptot (max): 125 W; QG: 116 nC; RDS (on) (max) (@10V): 5.2 mOhm; RthJC (max): 1.2 K/W; VDS (max): -40 V; VGS(th) (max): -4 V; VGS(th) (min): -2 V; DatasheetVersion: Rev. 1.0; PackageReference: PG-TO262-3-1; PackageDescription: 3-Pin Plastic (Green) Transistor Single Outline Package, 10 x 9.25 mm Body, 2.54 mm Pitch; Supplier 1: Mouser; Supplier Part Number 1: 726-IPI80P04P4-05; Halogen-free: TRUE; Packing: Tube; Technology: OptiMOS-P2; Mounting Technology: Through Hole; ComponentLink1Description: Manufacturer URL; ComponentLink1URL: http://www.infineon.com/; ComponentLink2Description: Datasheet; ComponentLink2URL: http://www.infineon.com/dgdl/IPP_B_I80P04P4-05_DS_10.pdf?folderId=db3a304412b407950112b42b75b74520&fileId=db3a30432f69f146012f7833bcf12e3a&location=en.Products.Automotive_ICs.Automotive_MOSFETs.Single__P-Channel_40V_MOSFETs.DATASHEET.IPP_B_I80P04P4-05_DS_10.pdf; ComponentLink3Description: Package Specification; ComponentLink3URL: http://www.infineon.com/cms/packages/Leaded_and_through-hole/P-PG-TO262/P-PG-TO262-3-1.html?__locale=en
footprint INF-PG-TO262-3-1 (FM, 3-Leads, Body 10x4.4mm, Pitch 2.54mm)
pins: 1 GATE, 2 DRAIN, 3 SOURCE

## IPI80P04P4-07
designator Q?
OptiMOS-P2 Power-Transistor, -40 V VDS, -80 A ID, PG-TO262-3-1, Tube, Green; Manufacturer: Infineon; PartNumber: IPI80P04P4-07; Green: TRUE; ID (max): -80 A; IDpuls (max): -320 A; Ptot (max): 88 W; QG: 68 nC; RDS (on) (max) (@10V): 7.7 mOhm; RthJC (max): 1.7 K/W; VDS (max): -40 V; VGS(th) (max): -4 V; VGS(th) (min): -2 V; DatasheetVersion: Rev. 1.0; PackageReference: PG-TO262-3-1; PackageDescription: 3-Pin Plastic (Green) Transistor Single Outline Package, 10 x 9.25 mm Body, 2.54 mm Pitch; Supplier 1: Mouser; Supplier Part Number 1: 726-IPI80P04P4-07; Halogen-free: TRUE; Packing: Tube; Technology: OptiMOS-P2; Mounting Technology: Through Hole; ComponentLink1Description: Manufacturer URL; ComponentLink1URL: http://www.infineon.com/; ComponentLink2Description: Datasheet; ComponentLink2URL: http://www.infineon.com/dgdl/IPP_B_I80P04P4-07_DS_10.pdf?folderId=db3a304412b407950112b42b75b74520&fileId=db3a30432f69f146012f783099142e25&location=en.Products.Automotive_ICs.Automotive_MOSFETs.Single__P-Channel_40V_MOSFETs.DATASHEET.IPP_B_I80P04P4-07_DS_10.pdf; ComponentLink3Description: Package Specification; ComponentLink3URL: http://www.infineon.com/cms/packages/Leaded_and_through-hole/P-PG-TO262/P-PG-TO262-3-1.html?__locale=en
footprint INF-PG-TO262-3-1 (FM, 3-Leads, Body 10x4.4mm, Pitch 2.54mm)
pins: 1 GATE, 2 DRAIN, 3 SOURCE

## IPI80P04P4L-04
designator Q?
OptiMOS-P2 Power-Transistor, -40 V VDS, -80 A ID, PG-TO262-3-1, Tube, Green; Manufacturer: Infineon; PartNumber: IPI80P04P4L-04; Green: TRUE; ID (max): -80 A; IDpuls (max): -320 A; Ptot (max): 125 W; QG: 135 nC; RDS (on) (max) (@10V): 4.7 mOhm; RDS (on) (max) (@4.5V): 7.1 mOhm; RthJC (max): 1.2 K/W; VDS (max): -40 V; VGS(th) (max): -2.2 V; VGS(th) (min): -1.2 V; DatasheetVersion: Rev. 1.0; PackageReference: PG-TO262-3-1; PackageDescription: 3-Pin Plastic (Green) Transistor Single Outline Package, 10 x 9.25 mm Body, 2.54 mm Pitch; Supplier 1: Mouser; Supplier Part Number 1: 726-IPI80P04P4L-04; Halogen-free: TRUE; Packing: Tube; Technology: OptiMOS-P2; Mounting Technology: Through Hole; ComponentLink1Description: Manufacturer URL; ComponentLink1URL: http://www.infineon.com/; ComponentLink2Description: Datasheet; ComponentLink2URL: http://www.infineon.com/dgdl/IPP_B_I80P04P4L-04_DS_10.pdf?folderId=db3a304412b407950112b42b75b74520&fileId=db3a30432f69f146012f783241fb2e2a&location=en.Products.Automotive_ICs.Automotive_MOSFETs.Single__P-Channel_40V_MOSFETs.DATASHEET.IPP_B_I80P04P4L-04_DS_10.pdf; ComponentLink3Description: Package Specification; ComponentLink3URL: http://www.infineon.com/cms/packages/Leaded_and_through-hole/P-PG-TO262/P-PG-TO262-3-1.html?__locale=en
footprint INF-PG-TO262-3-1 (FM, 3-Leads, Body 10x4.4mm, Pitch 2.54mm)
pins: 1 GATE, 2 DRAIN, 3 SOURCE

## IPI80P04P4L-06
designator Q?
OptiMOS-T2 Power-Transistor, -40 V VDS, -80 A ID, PG-TO262-3-1, Tube, Green; Manufacturer: Infineon; PartNumber: IPI80P04P4L-06; Green: TRUE; ID (max): -80 A; IDpuls (max): -320 A; Ptot (max): 88 W; QG: 80 nC; RDS (on) (max) (@10V): 6.7 mOhm; RDS (on) (max) (@4.5V): 10.8 mOhm; RthJC (max): 1.7 K/W; VDS (max): -40 V; VGS(th) (max): -2.2 V; VGS(th) (min): -1.2 V; DatasheetVersion: Rev. 1.0; PackageReference: PG-TO262-3-1; PackageDescription: 3-Pin Plastic (Green) Transistor Single Outline Package, 10 x 9.25 mm Body, 2.54 mm Pitch; Supplier 1: Mouser; Supplier Part Number 1: 726-IPI80P04P4L-06; Halogen-free: TRUE; Packing: Tube; Technology: OptiMOS-P2; Mounting Technology: Through Hole; ComponentLink1Description: Manufacturer URL; ComponentLink1URL: http://www.infineon.com/; ComponentLink2Description: Datasheet; ComponentLink2URL: http://www.infineon.com/dgdl/IPP_B_I80P04P4L-06_DS_10.pdf?folderId=db3a304412b407950112b42b75b74520&fileId=db3a30432f69f146012f782f18402e14&location=en.Products.Automotive_ICs.Automotive_MOSFETs.Single__P-Channel_40V_MOSFETs.DATASHEET.IPP_B_I80P04P4L-06_DS_10.pdf; ComponentLink3Description: Package Specification; ComponentLink3URL: http://www.infineon.com/cms/packages/Leaded_and_through-hole/P-PG-TO262/P-PG-TO262-3-1.html?__locale=en
footprint INF-PG-TO262-3-1 (FM, 3-Leads, Body 10x4.4mm, Pitch 2.54mm)
pins: 1 GATE, 2 DRAIN, 3 SOURCE

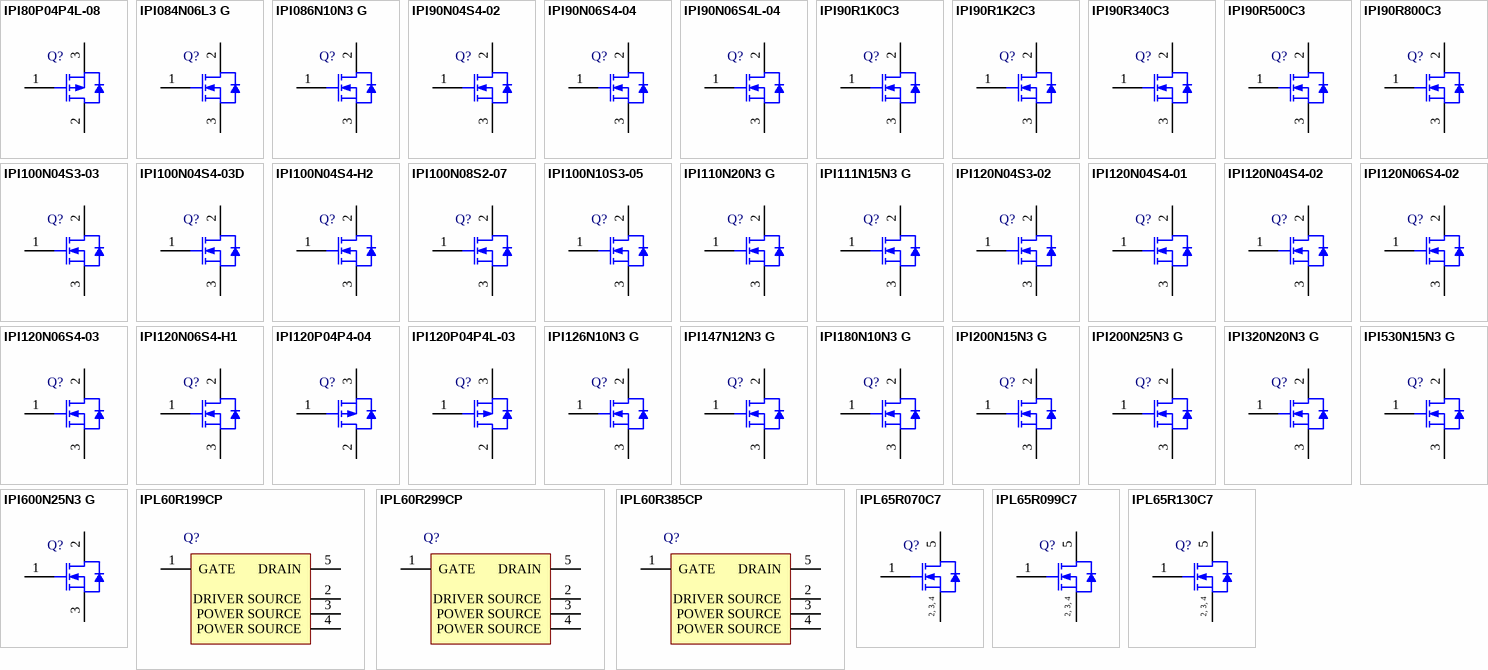
[diagram p24: symbols IPI80P04P4L-08 to IPL65R130C7]

## IPI80P04P4L-08
designator Q?
OptiMOS-P2 Power-Transistor, -40 V VDS, -80 A ID, PG-TO262-3-1, Tube, Green; Manufacturer: Infineon; PartNumber: IPI80P04P4L-08; Green: TRUE; ID (max): -80 A; IDpuls (max): -320 A; Ptot (max): 75 W; QG: 71 nC; RDS (on) (max) (@10V): 8.2 mOhm; RDS (on) (max) (@4.5V): 13.3 mOhm; RthJC (max): 2 K/W; VDS (max): -40 V; VGS(th) (max): -2.2 V; VGS(th) (min): -1.2 V; DatasheetVersion: Rev. 1.0; PackageReference: PG-TO262-3-1; PackageDescription: 3-Pin Plastic (Green) Transistor Single Outline Package, 10 x 9.25 mm Body, 2.54 mm Pitch; Supplier 1: Mouser; Supplier Part Number 1: 726-IPI80P04P4L-08; Halogen-free: TRUE; Packing: Tube; Technology: OptiMOS-P2; Mounting Technology: Through Hole; ComponentLink1Description: Manufacturer URL; ComponentLink1URL: http://www.infineon.com/; ComponentLink2Description: Datasheet; ComponentLink2URL: http://www.infineon.com/dgdl/IPP_B_I80P04P4L-08_DS-10.pdf?folderId=db3a304412b407950112b42b75b74520&fileId=db3a30432f69f146012f782b5eca2e0a&location=en.Products.Automotive_ICs.Automotive_MOSFETs.Single__P-Channel_40V_MOSFETs.DATASHEET.IPP_B_I80P04P4L-08_DS-10.pdf; ComponentLink3Description: Package Specification; ComponentLink3URL: http://www.infineon.com/cms/packages/Leaded_and_through-hole/P-PG-TO262/P-PG-TO262-3-1.html?__locale=en
footprint INF-PG-TO262-3-1 (FM, 3-Leads, Body 10x4.4mm, Pitch 2.54mm)
pins: 1 GATE, 2 DRAIN, 3 SOURCE